# EAGLE library part OPA2 (library Eagle_CAD_parts)
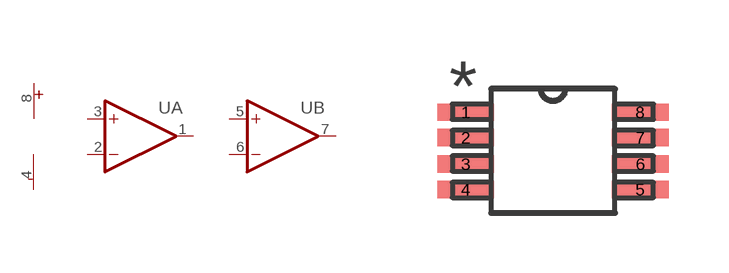
[diagram p96: symbol with the pads of 8-VSSOP; footprint 8-VSSOP]

Designator prefix U; gates A=OPAMP-COMUN B=OPAMP-COMUN SUP=ALIMENTACION

## OPA2333AIDGKR (DIGIKEY_PART_NUMBER: 296-32182-1-ND; I_OUT: 5 mA; MANUFACTURER_PART_NUMBER: OPA2333AIDGKT; OUT_TYPE: Rail-to-Rail; V_SUPP: 1.8V ~ 5.5V)  [8-VSSOP]
1  A:OUT  oc
2  A:-IN  in
3  A:+IN  in
4  SUP:V-  pwr
5  B:+IN  in
6  B:-IN  in
7  B:OUT  oc
8  SUP:V+  pwr

## OPA2830IDGKR (DIGIKEY_PART_NUMBER: 296-46158-1-ND; I_OUT: 82 mA; MANUFACTURER_PART_NUMBER: OPA2830IDGKR; OUT_TYPE: Rail-to-Rail; V_SUPP: 2.8V ~ 11V)  [8-VSSOP]
Pads as for 8-VSSOP

## Footprint 8-VSSOP (pad centres in mm)
smd 1.422 x 0.432: 1 -2.184,0.965; 2 -2.184,0.33; 3 -2.184,-0.33; 4 -2.184,-0.965; 5 2.184,-0.965; 6 2.184,-0.33; 7 2.184,0.33; 8 2.184,0.965